# Altium schematic symbol library RE200B.SCHLIB: 1 symbol
Pins are listed as number, name and electrical type; pins without a type are passive.

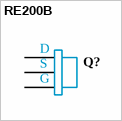
[diagram p0: symbol RE200B]

## RE200B
designator Q?
pins: 1 D, 2 S, 3 G